# EAGLE library part SN74LVC2G02 (library Moodlight)
Dual 2-input NOR gate
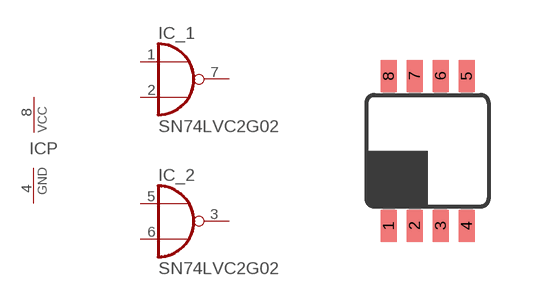
[diagram p6: symbol with the pads of DCT_R-PDSO-G8; footprint DCT_R-PDSO-G8]

Designator prefix IC; gates _1=7402 P=PWRN _2=7402

## SN74LVC2G02  [DCT_R-PDSO-G8]
1  _1:A  in
2  _1:B  in
3  _2:Y  out
4  P:GND  pwr
5  _2:A  in
6  _2:B  in
7  _1:Y  out
8  P:VCC  pwr

## Footprint DCT_R-PDSO-G8 (pad centres in mm)
DCT (R-PDSO-G8) PLSTIG SMALL-OUTLINE PACKAGE Source: http://focus.ti.com/lit/ds/symlink/sn74lvc2g53.pdf
smd 0.4 x 0.8: 1 -0.975,-1.875; 2 -0.325,-1.875; 3 0.325,-1.875; 4 0.975,-1.875; 5 0.975,1.875; 6 0.325,1.875; 7 -0.325,1.875; 8 -0.975,1.875